# Altium footprint library 封装图.PcbLib: 1 footprints
Each footprint in its own frame and in the unit in brackets; x right, y up, seen from the top. Pads: shape width x height; smd on the part's side, far side on the other; paste and mask are expansions set on the pad; w line width, h text height; cw(c..) or ccw(c..) is an arc to the next point about the centre after c.
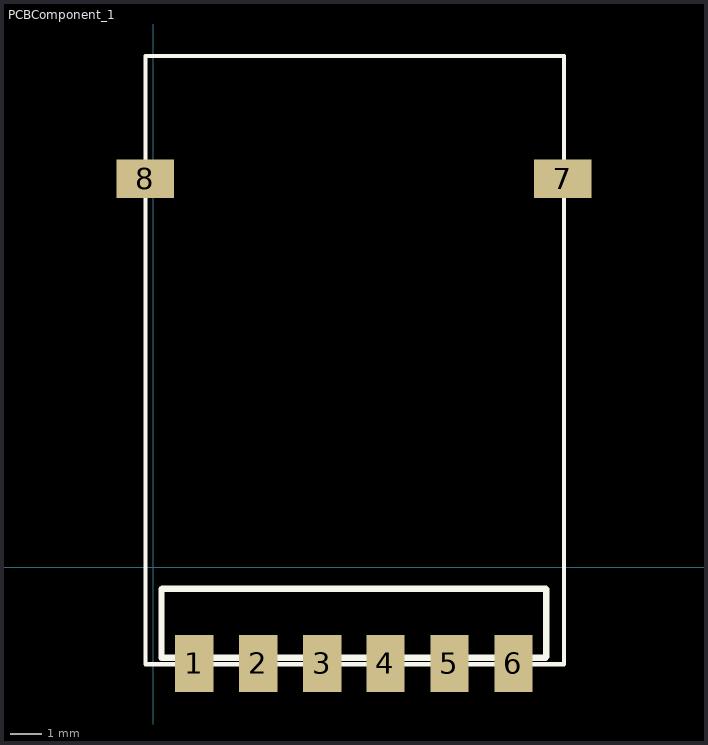
[diagram p0: the footprint, top view; thin cyan lines are the x and y axes]

## PCBComponent_1 [mm]
pads (8):
  rect 1.2x1.8 smd: 1(1.278,-3.024) 2(3.284,-3.024) 3(5.291,-3.024) 4(7.272,-3.024) 5(9.279,-3.024) 6(11.285,-3.024)
  rect 1.8x1.2 smd: 7(12.829,12.177) 8(-0.254,12.177)
Top Overlay:
  lines w0.127: -0.254,-3.048 -0.254,16.027 12.871,16.027 12.871,-3.048 -0.254,-3.048
  lines w0.2: 0.251,-0.695 0.251,-2.845 12.291,-2.845 ; 0.271,-0.685 12.301,-0.685 ; 12.311,-2.815 12.311,-0.695